# Altium footprint library Extra_Space.PcbLib: 1 footprints
Each footprint in its own frame and in the unit in brackets; x right, y up, seen from the top. Pads: shape width x height; smd on the part's side, far side on the other; paste and mask are expansions set on the pad; w line width, h text height; cw(c..) or ccw(c..) is an arc to the next point about the centre after c.
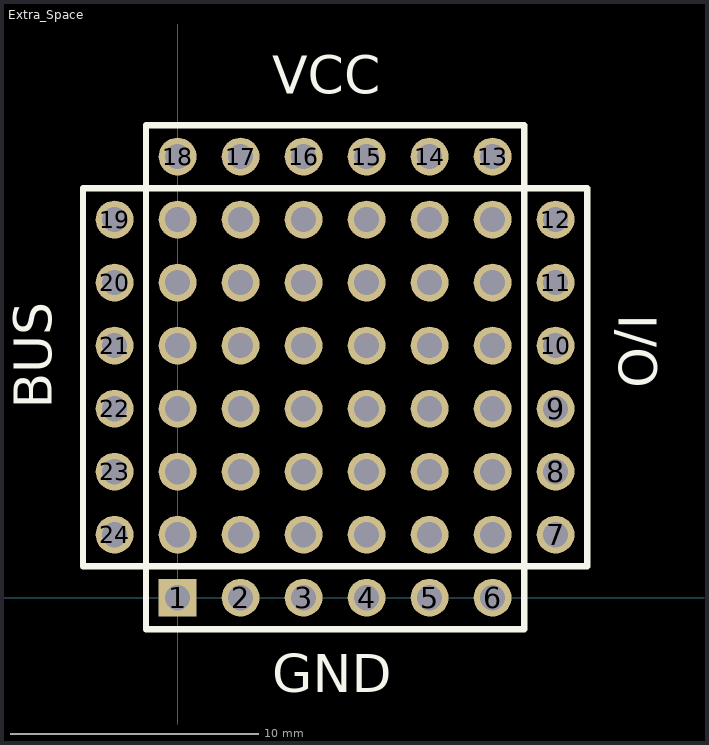
[diagram p0: the footprint, top view; thin cyan lines are the x and y axes]

## Extra_Space [mil]
pads (60):
  rect 60x60 hole 40: 1(0,0)
  round 60 hole 40: 2(100,0) 3(200,0) 4(300,0) 5(400,0) 6(500,0) 7(600,100) 8(600,200) 9(600,300) 10(600,400) 11(600,500) 12(600,600) 13(500,700) 14(400,700) 15(300,700) 16(200,700) 17(100,700) 18(0,700) 19(-100,600) 20(-100,500) 21(-100,400) 22(-100,300) 23(-100,200) 24(-100,100) ""(0,100) ""(0,200) ""(0,300) ""(0,400) ""(0,500) ""(0,600) ""(100,100) ""(100,200) ""(100,300) ""(100,400) ""(100,500) ""(100,600) ""(200,100) ""(200,200) ""(200,300) ""(200,400) ""(200,500) ""(200,600) ""(300,100) ""(300,200) ""(300,300) ""(300,400) ""(300,500) ""(300,600) ""(400,100) ""(400,200) ""(400,300) ""(400,400) ""(400,500) ""(400,600) ""(500,100) ""(500,200) ""(500,300) ""(500,400) ""(500,500) ""(500,600)
Top Overlay:
  lines w10: -50,650 -50,-50 550,-50 550,50 ; -50,650 -150,650 -150,50 -50,50 550,50 ; -50,650 -50,750 550,750 550,650 ; -50,650 550,650 ; 550,50 650,50 650,650 550,650 ; 550,50 550,650
  text "BUS" at -200,300 h60
  text "GND" at 150,-150 h60
  text "I/O" at 700,450 h60
  text "VCC" at 150,800 h60